# Altium schematic symbol library MT3608.SchLib: 1 symbol
Pins are listed as number, name and electrical type; pins without a type are passive.

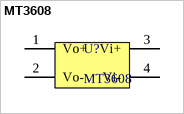
[diagram p0: symbol MT3608]

## MT3608
designator U?
footprint PCBComponent_1
pins: 1 Vo+, 2 Vo-, 3 Vi+, 4 Vi-